# EAGLE library part CONN,RIBBON,2X10 (library QuantumOptics)
Ribbon cable connector, 2 rows of 10, such as 0.05" pitch Sullins SBH41-NBPB-D10-SP-BK (SMT), mates with SFH41-PPPB-D10-ID-BK (wire side).
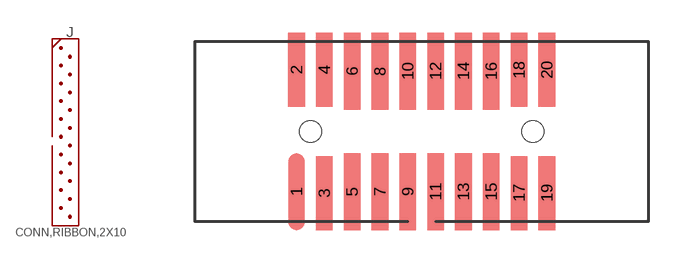
[diagram p186: symbol with the pads of CONN,RIBBON,2X10,SULLINS_SBH41-NBPB-D10-ST-__; footprint CONN,RIBBON,2X10,SULLINS_SBH41-NBPB-D10-ST-__]

Designator prefix J

## CONN,RIBBON,2X10-SULLINS_SBH41-NBPB-D10-SP  [CONN,RIBBON,2X10,SULLINS_SBH41-NBPB-D10-ST-__]
1  1
2  2
3  3
4  4
5  5
6  6
7  7
8  8
9  9
10  10
11  11
12  12
13  13
14  14
15  15
16  16
17  17
18  18
19  19
20  20

## Footprint CONN,RIBBON,2X10,SULLINS_SBH41-NBPB-D10-ST-__ (pad centres in mm)
Ribbon cable connector, 2 rows of 10, 0.05" grid, Sullins SBH41-NBPB-D10-SP-BK (SMT), can sub -SM- for no PCB guides, mates with SFH41-PPPB-D10-ID-BK (insulation displacement).
smd 0.76 x 3.5: 1 0,-2.75; 5 2.54,-2.75; 6 2.54,2.75; 7 3.81,-2.75; 8 3.81,2.75; 9 5.08,-2.75; 10 5.08,2.75; 11 6.35,-2.75; 12 6.35,2.75; 13 7.62,-2.75; 14 7.62,2.75; 15 8.89,-2.75; 16 8.89,2.75
smd 0.76 x 3.38: 2 0,2.81; 3 1.27,-2.81; 4 1.27,2.81; 17 10.16,-2.81; 18 10.16,2.81; 19 11.43,-2.81; 20 11.43,2.81
hole 0.991 at 0.635,0
hole 0.991 at 10.795,0